# Altium integrated library TI Data Converters Analog to Digital Converter.IntLib: 2198 symbols (part 9 of 164)
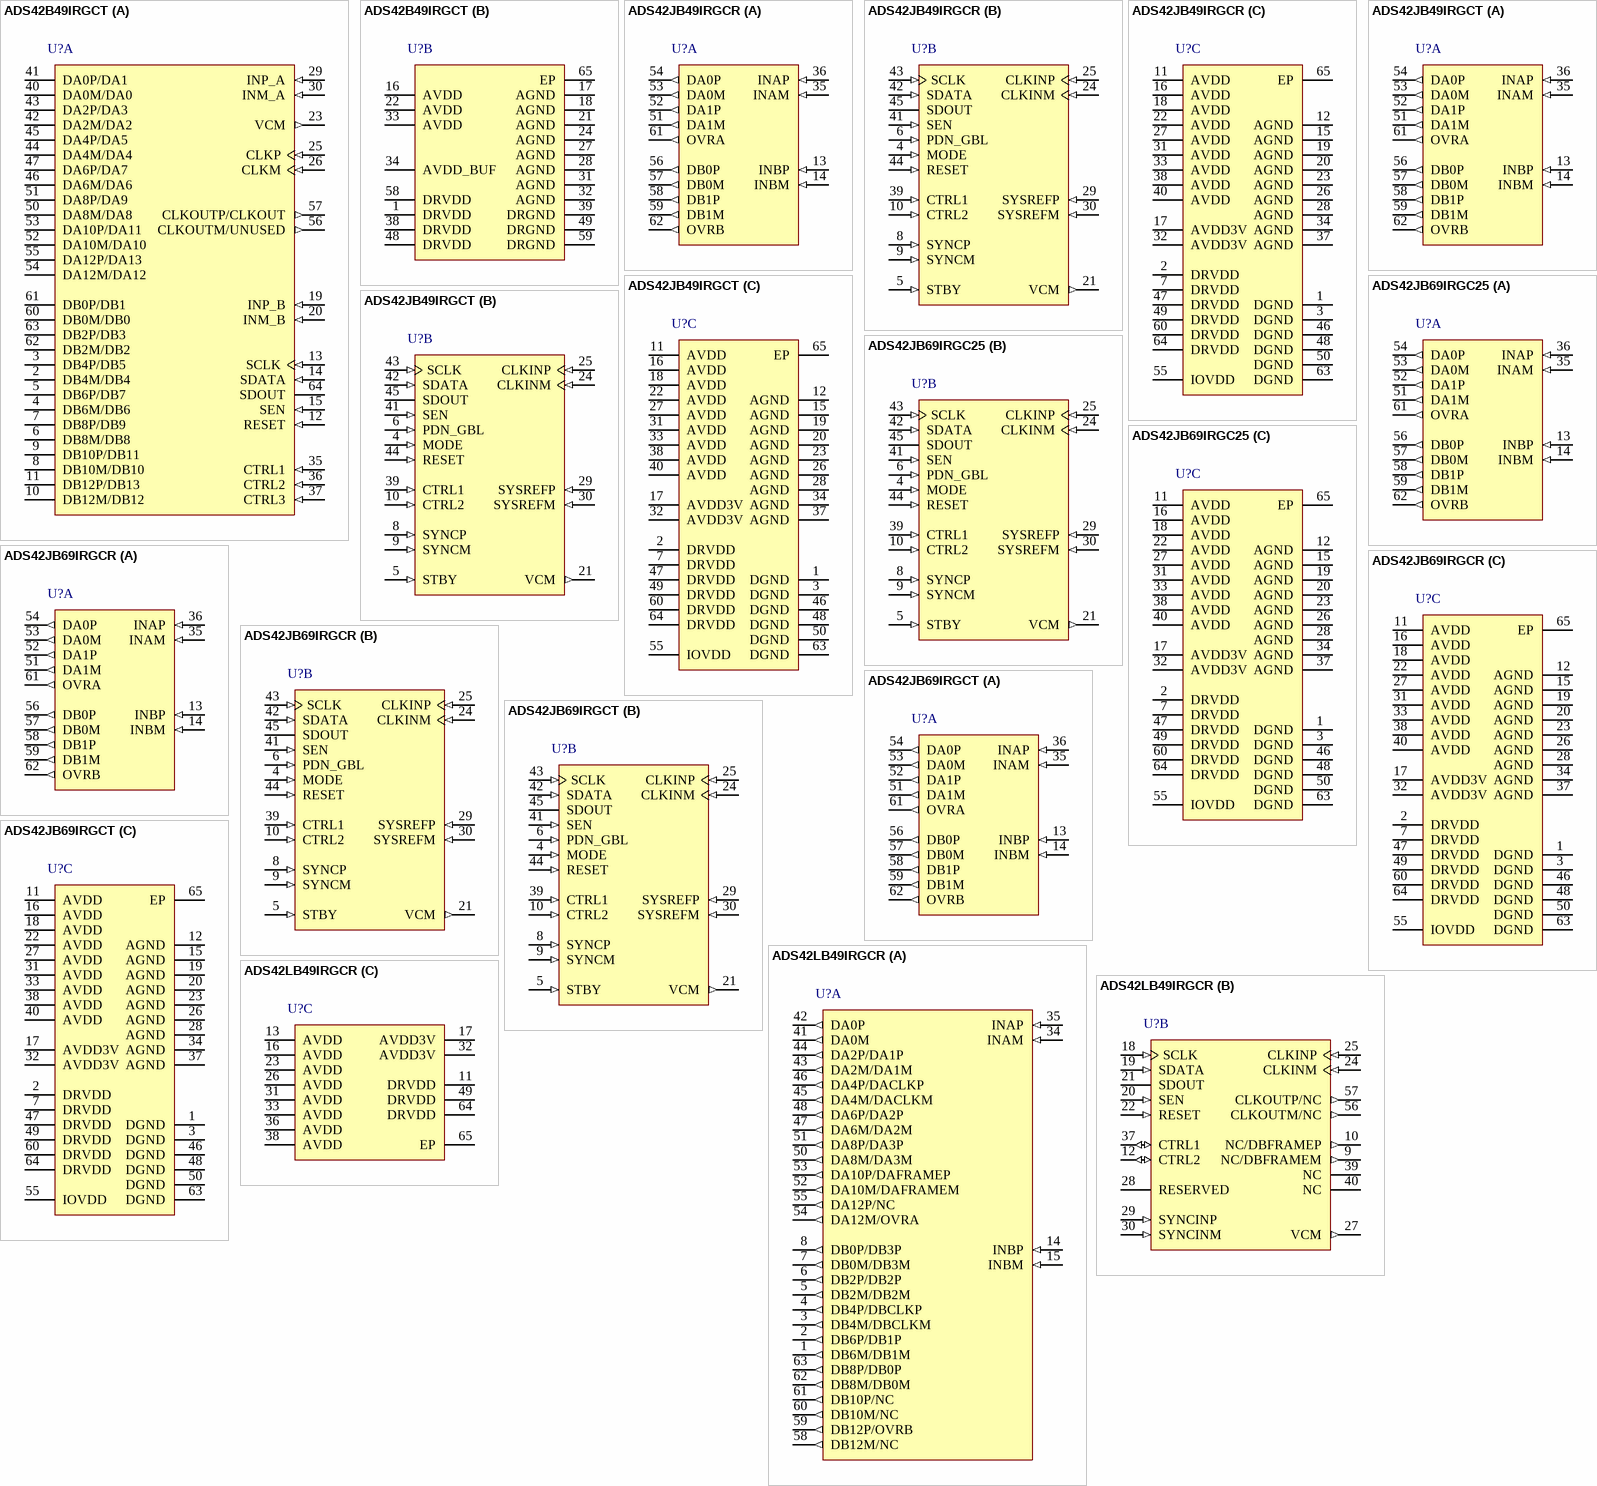
[diagram p134: symbols ADS42B49IRGCT to ADS42LB49IRGCR]

## ADS42JB69IRGCR
designator U?
Dual 16-Bit, 250 MSPS ADC, -40 to 85 degC, 64-pin QFN (RGC64), Green (RoHS & no Sb/Br); Manufacturer: Texas Instruments; PartNumber: ADS42JB69IRGCR; # Input Channels: 2; Analog Voltage AV/DD(Max)(V): 3.45; Analog Voltage AV/DD(Min)(V): 3.15; Architecture: Pipeline; Digital Supply(Max)(V): 1.9; Digital Supply(Min)(V): 1.7; Interface: JEDEC 204B; Resolution(Bits): 16; Sample Rate(max)(SPS): 250M; SFDR(dB): 89; SNR(dB): 73.3; SubFamily: High Speed ADC (>10MSPS); DatasheetVersion: SLAS900A; PackageVersion: 4204106/F, 11/2011; PackageReference: RGC64-7400X7400TP; PackageDescription: 64-Pin Plastic Quad Flatpack No-Lead, Body 9 x 9 mm, Pitch 0.5 mm; Supplier 1: Digi-Key; Supplier Part Number 1: ADS1110A1IDBVTG4-ND; Eco-Plan: Green (RoHS & no Sb/Br); Mounting Technology: Surface Mount; ComponentLink1Description: Manufacturer URL; ComponentLink1URL: http://www.ti.com/; ComponentLink2Description: Datasheet; ComponentLink2URL: http://www.ti.com/lit/ds/symlink/ads42jb69.pdf; ComponentLink3Description: Package Specification; ComponentLink3URL: http://www.ti.com/litv/pdf/mpqf125e
footprint TI-RGC64-7400X7400TP_V (QFN, 64-Leads, Body 9x9mm, Pitch 0.5mm, Thermal Pad 7.4x7.4mm, TI Recommended)
part A pins: 13 INBP (in) "Differential analog input for channel B", 14 INBM (in) "Differential analog input for channel B", 35 INAM (in) "Differential analog input for channel A", 36 INAP (in) "Differential analog input for channel A", 51 DA1M (out) "JESD204B Serial data output for channel A", 52 DA1P (out) "JESD204B Serial data output for channel A", 53 DA0M (out) "JESD204B Serial data output for channel A", 54 DA0P (out) "JESD204B Serial data output for channel A", 56 DB0P (out) "JESD204B Serial data output for channel B", 57 DB0M (out) "JESD204B Serial data output for channel B", 58 DB1P (out) "JESD204B Serial data output for channel B", 59 DB1M (out) "JESD204B Serial data output for channel B", 61 OVRA (out) "Overrange indication channel A", 62 OVRB (out) "Overrange indication channel B"
part B pins: 4 MODE (in) "Connect to GND", 5 STBY (in) "Standby. Active high with internal pulldown resistor", 6 PDN_GBL (in) "Global power down. Active high with internal pulldown resistor", 8 SYNCP (in) "Synchronization input for JESD204B port", 9 SYNCM (in) "Synchronization input for JESD204B port", 10 CTRL2 (in) "Power down control", 21 VCM (out) "Common mode voltage for analog inputs, 1.9V", 24 CLKINM (in) "Differential clock input for ADC", 25 CLKINP (in) "Differential clock input for ADC", 29 SYSREFP (in) "External sync input", 30 SYSREFM (in) "External sync input", 39 CTRL1 (in) "Power down control", 41 SEN (in) "Serial interface enable", 42 SDATA (in) "Serial interface data input.", 43 SCLK (in) "Serial interface clock input", 44 RESET (in) "Hardware reset. Active high. This pin has an internal 150kO pull-down resistor.", 45 SDOUT (hiz) "Serial interface data output"
part C pins: 1 DGND (power) "Digital ground", 2 DRVDD (power) "Digital 1.8V power supply", 3 DGND (power) "Digital ground", 7 DRVDD (power) "Digital 1.8V power supply", 11 AVDD (power) "Analog 1.8V power supply", 12 AGND (power) "Analog ground", 15 AGND (power) "Analog ground", 16 AVDD (power) "Analog 1.8V power supply", 17 AVDD3V (power) "Analog 3.3V for analog buffer", 18 AVDD (power) "Analog 1.8V power supply", 19 AGND (power) "Analog ground", 20 AGND (power) "Analog ground", 22 AVDD (power) "Analog 1.8V power supply", 23 AGND (power) "Analog ground", 26 AGND (power) "Analog ground", 27 AVDD (power) "Analog 1.8V power supply", 28 AGND (power) "Analog ground", 31 AVDD (power) "Analog 1.8V power supply", 32 AVDD3V (power) "Analog 3.3V for analog buffer", 33 AVDD (power) "Analog 1.8V power supply", 34 AGND (power) "Analog ground", 37 AGND (power) "Analog ground", 38 AVDD (power) "Analog 1.8V power supply", 40 AVDD (power) "Analog 1.8V power supply", 46 DGND (power) "Digital ground", 47 DRVDD (power) "Digital 1.8V power supply", 48 DGND (power) "Digital ground", 49 DRVDD (power) "Digital 1.8V power supply", 50 DGND (power) "Digital ground", 55 IOVDD (power) "Digital 1.8V power supply for the JESD204B transmitter", 60 DRVDD (power) "Digital 1.8V power supply", 63 DGND (power) "Digital ground", 64 DRVDD (power) "Digital 1.8V power supply", 65 EP (power)

## ADS42JB69IRGCT
designator U?
Dual 16-Bit, 250 MSPS ADC, -40 to 85 degC, 64-pin QFN (RGC64), Green (RoHS & no Sb/Br); Manufacturer: Texas Instruments; PartNumber: ADS42JB69IRGCT; # Input Channels: 2; Analog Voltage AV/DD(Max)(V): 3.45; Analog Voltage AV/DD(Min)(V): 3.15; Architecture: Pipeline; Digital Supply(Max)(V): 1.9; Digital Supply(Min)(V): 1.7; Interface: JEDEC 204B; Resolution(Bits): 16; Sample Rate(max)(SPS): 250M; SFDR(dB): 89; SNR(dB): 73.3; SubFamily: High Speed ADC (>10MSPS); DatasheetVersion: SLAS900A; PackageVersion: 4204106/F, 11/2011; PackageReference: RGC64-7400X7400TP; PackageDescription: 64-Pin Plastic Quad Flatpack No-Lead, Body 9 x 9 mm, Pitch 0.5 mm; Supplier 1: Digi-Key; Supplier Part Number 1: ADS1110A2IDBVR-ND; Eco-Plan: Green (RoHS & no Sb/Br); Mounting Technology: Surface Mount; ComponentLink1Description: Manufacturer URL; ComponentLink1URL: http://www.ti.com/; ComponentLink2Description: Datasheet; ComponentLink2URL: http://www.ti.com/lit/ds/symlink/ads42jb69.pdf; ComponentLink3Description: Package Specification; ComponentLink3URL: http://www.ti.com/litv/pdf/mpqf125e
footprint TI-RGC64-7400X7400TP_V (QFN, 64-Leads, Body 9x9mm, Pitch 0.5mm, Thermal Pad 7.4x7.4mm, TI Recommended)
part A pins: 13 INBP (in) "Differential analog input for channel B", 14 INBM (in) "Differential analog input for channel B", 35 INAM (in) "Differential analog input for channel A", 36 INAP (in) "Differential analog input for channel A", 51 DA1M (out) "JESD204B Serial data output for channel A", 52 DA1P (out) "JESD204B Serial data output for channel A", 53 DA0M (out) "JESD204B Serial data output for channel A", 54 DA0P (out) "JESD204B Serial data output for channel A", 56 DB0P (out) "JESD204B Serial data output for channel B", 57 DB0M (out) "JESD204B Serial data output for channel B", 58 DB1P (out) "JESD204B Serial data output for channel B", 59 DB1M (out) "JESD204B Serial data output for channel B", 61 OVRA (out) "Overrange indication channel A", 62 OVRB (out) "Overrange indication channel B"
part B pins: 4 MODE (in) "Connect to GND", 5 STBY (in) "Standby. Active high with internal pulldown resistor", 6 PDN_GBL (in) "Global power down. Active high with internal pulldown resistor", 8 SYNCP (in) "Synchronization input for JESD204B port", 9 SYNCM (in) "Synchronization input for JESD204B port", 10 CTRL2 (in) "Power down control", 21 VCM (out) "Common mode voltage for analog inputs, 1.9V", 24 CLKINM (in) "Differential clock input for ADC", 25 CLKINP (in) "Differential clock input for ADC", 29 SYSREFP (in) "External sync input", 30 SYSREFM (in) "External sync input", 39 CTRL1 (in) "Power down control", 41 SEN (in) "Serial interface enable", 42 SDATA (in) "Serial interface data input.", 43 SCLK (in) "Serial interface clock input", 44 RESET (in) "Hardware reset. Active high. This pin has an internal 150kO pull-down resistor.", 45 SDOUT (hiz) "Serial interface data output"
part C pins: 1 DGND (power) "Digital ground", 2 DRVDD (power) "Digital 1.8V power supply", 3 DGND (power) "Digital ground", 7 DRVDD (power) "Digital 1.8V power supply", 11 AVDD (power) "Analog 1.8V power supply", 12 AGND (power) "Analog ground", 15 AGND (power) "Analog ground", 16 AVDD (power) "Analog 1.8V power supply", 17 AVDD3V (power) "Analog 3.3V for analog buffer", 18 AVDD (power) "Analog 1.8V power supply", 19 AGND (power) "Analog ground", 20 AGND (power) "Analog ground", 22 AVDD (power) "Analog 1.8V power supply", 23 AGND (power) "Analog ground", 26 AGND (power) "Analog ground", 27 AVDD (power) "Analog 1.8V power supply", 28 AGND (power) "Analog ground", 31 AVDD (power) "Analog 1.8V power supply", 32 AVDD3V (power) "Analog 3.3V for analog buffer", 33 AVDD (power) "Analog 1.8V power supply", 34 AGND (power) "Analog ground", 37 AGND (power) "Analog ground", 38 AVDD (power) "Analog 1.8V power supply", 40 AVDD (power) "Analog 1.8V power supply", 46 DGND (power) "Digital ground", 47 DRVDD (power) "Digital 1.8V power supply", 48 DGND (power) "Digital ground", 49 DRVDD (power) "Digital 1.8V power supply", 50 DGND (power) "Digital ground", 55 IOVDD (power) "Digital 1.8V power supply for the JESD204B transmitter", 60 DRVDD (power) "Digital 1.8V power supply", 63 DGND (power) "Digital ground", 64 DRVDD (power) "Digital 1.8V power supply", 65 EP (power)

## ADS42LB49IRGCR
designator U?
Dual 14-Bit, 250 MSPS ADC, -40 to 85 degC, 64-pin QFN (RGC64); Manufacturer: Texas Instruments; PartNumber: ADS42LB49IRGCR; # Input Channels: 2; Analog Voltage AV/DD(Max)(V): 3.45; Analog Voltage AV/DD(Min)(V): 3.15; Architecture: Pipeline; Digital Supply(Max)(V): 1.9; Digital Supply(Min)(V): 1.7; Interface: Parallel LVDS; Resolution(Bits): 14; Sample Rate(max)(SPS): 250M; SFDR(dB): 89; SNR(dB): 71.9; SubFamily: High Speed ADC (>10MSPS); DatasheetVersion: SLAS904B; PackageVersion: 4204106/F, 11/2011; PackageReference: RGC64-7400X7400TP; PackageDescription: 64-Pin Plastic Quad Flatpack No-Lead, Body 9 x 9 mm, Pitch 0.5 mm; Supplier 1: Digi-Key; Supplier Part Number 1: ADS1110A2IDBVRG4-ND; Mounting Technology: Surface Mount; ComponentLink1Description: Manufacturer URL; ComponentLink1URL: http://www.ti.com/; ComponentLink2Description: Datasheet; ComponentLink2URL: http://www.ti.com/lit/ds/symlink/ads42lb49.pdf; ComponentLink3Description: Package Specification; ComponentLink3URL: http://www.ti.com/litv/pdf/mpqf125e
footprint TI-RGC64-7400X7400TP_V (QFN, 64-Leads, Body 9x9mm, Pitch 0.5mm, Thermal Pad 7.4x7.4mm, TI Recommended)
part A pins: 1 DB6M/DB1M (out), 2 DB6P/DB1P (out), 3 DB4M/DBCLKM (out), 4 DB4P/DBCLKP (out), 5 DB2M/DB2M (out), 6 DB2P/DB2P (out), 7 DB0M/DB3M (out), 8 DB0P/DB3P (out), 14 INBP (in) "Differential analog input for channel B", 15 INBM (in) "Differential analog input for channel B", 34 INAM (in) "Differential analog input for channel A", 35 INAP (in) "Differential analog input for channel A", 41 DA0M (out), 42 DA0P (out), 43 DA2M/DA1M (out), 44 DA2P/DA1P (out), 45 DA4M/DACLKM (out), 46 DA4P/DACLKP (out), 47 DA6M/DA2M (out), 48 DA6P/DA2P (out), 50 DA8M/DA3M (out), 51 DA8P/DA3P (out), 52 DA10M/DAFRAMEM (out), 53 DA10P/DAFRAMEP (out), 54 DA12M/OVRA (out), 55 DA12P/NC (out), 58 DB12M/NC (out), 59 DB12P/OVRB (out), 60 DB10M/NC (out), 61 DB10P/NC (out), 62 DB8M/DB0M (out), 63 DB8P/DB0P (out)
part B pins: 9 NC/DBFRAMEM (out), 10 NC/DBFRAMEP (out), 12 CTRL2 (io) "Can be configured as power-down input pin or as OVR output pin for channel B, depending on the register bit PDN/OVR FOR CTRL PINS.", 18 SCLK (in) "Serial interface clock input", 19 SDATA (in) "Serial interface data input.", 20 SEN (in) "Serial interface enable", 21 SDOUT (hiz) "Serial interface data output", 22 RESET (in) "Hardware reset. Active high. This pin has an internal 150kohm pull-down resistor.", 24 CLKINM (in) "Differential clock input for ADC", 25 CLKINP (in) "Differential clock input for ADC", 27 VCM (out) "Common-mode voltage for analog inputs, 1.85 V", 28 RESERVED "Do not connect", 29 SYNCINP (in) "External sync input. If not used, SYNCINP should be connected to GND and SYNCINM connected to AVDD.", 30 SYNCINM (in) "External sync input. If not used, SYNCINP should be connected to GND and SYNCINM connected to AVDD.", 37 CTRL1 (io) "Can be configured as power-down input pin or as OVR output pin for channel A, depending on the register bit PDN/OVR FOR CTRL PINS.", 39 NC "Do not connect", 40 NC "Do not connect", 56 CLKOUTM/NC (out), 57 CLKOUTP/NC (out)
part C pins: 11 DRVDD (power) "Digital 1.8-V power supply", 13 AVDD (power) "Analog 1.8-V power supply", 16 AVDD (power) "Analog 1.8-V power supply", 17 AVDD3V (power) "Analog 3.3 V power supply for analog buffer", 23 AVDD (power) "Analog 1.8-V power supply", 26 AVDD (power) "Analog 1.8-V power supply", 31 AVDD (power) "Analog 1.8-V power supply", 32 AVDD3V (power) "Analog 3.3 V power supply for analog buffer", 33 AVDD (power) "Analog 1.8-V power supply", 36 AVDD (power) "Analog 1.8-V power supply", 38 AVDD (power) "Analog 1.8-V power supply", 49 DRVDD (power) "Digital 1.8-V power supply", 64 DRVDD (power) "Digital 1.8-V power supply", 65 EP (power) "Ground"

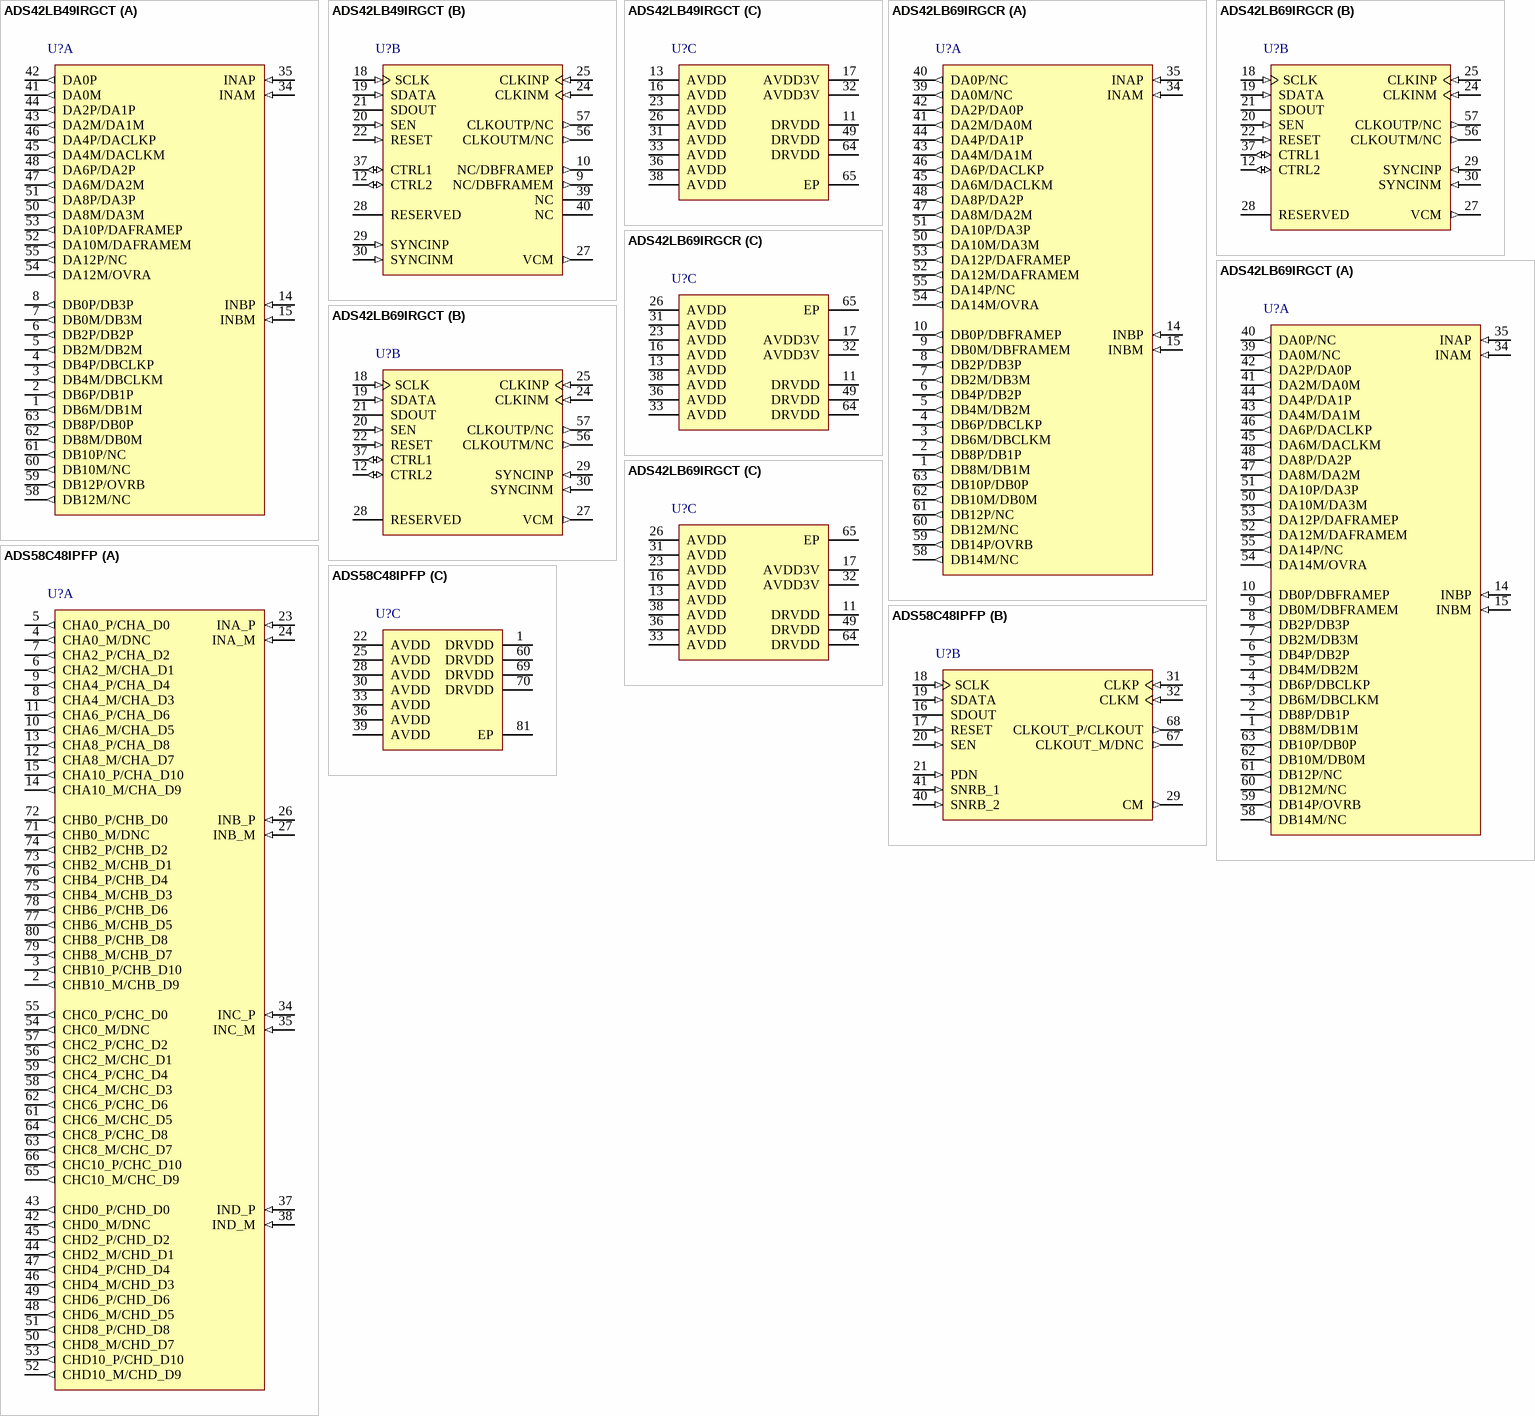
[diagram p4: symbols ADS42LB49IRGCT to ADS58C48IPFP]

## ADS42LB49IRGCT
designator U?
Dual 14-Bit, 250 MSPS ADC, -40 to 85 degC, 64-pin QFN (RGC64); Manufacturer: Texas Instruments; PartNumber: ADS42LB49IRGCT; # Input Channels: 2; Analog Voltage AV/DD(Max)(V): 3.45; Analog Voltage AV/DD(Min)(V): 3.15; Architecture: Pipeline; Digital Supply(Max)(V): 1.9; Digital Supply(Min)(V): 1.7; Interface: Parallel LVDS; Resolution(Bits): 14; Sample Rate(max)(SPS): 250M; SFDR(dB): 89; SNR(dB): 71.9; SubFamily: High Speed ADC (>10MSPS); DatasheetVersion: SLAS904B; PackageVersion: 4204106/F, 11/2011; PackageReference: RGC64-7400X7400TP; PackageDescription: 64-Pin Plastic Quad Flatpack No-Lead, Body 9 x 9 mm, Pitch 0.5 mm; Supplier 1: Digi-Key; Supplier Part Number 1: 296-14463-2-ND; Mounting Technology: Surface Mount; ComponentLink1Description: Manufacturer URL; ComponentLink1URL: http://www.ti.com/; ComponentLink2Description: Datasheet; ComponentLink2URL: http://www.ti.com/lit/ds/symlink/ads42lb49.pdf; ComponentLink3Description: Package Specification; ComponentLink3URL: http://www.ti.com/litv/pdf/mpqf125e
footprint TI-RGC64-7400X7400TP_V (QFN, 64-Leads, Body 9x9mm, Pitch 0.5mm, Thermal Pad 7.4x7.4mm, TI Recommended)
part A pins: 1 DB6M/DB1M (out), 2 DB6P/DB1P (out), 3 DB4M/DBCLKM (out), 4 DB4P/DBCLKP (out), 5 DB2M/DB2M (out), 6 DB2P/DB2P (out), 7 DB0M/DB3M (out), 8 DB0P/DB3P (out), 14 INBP (in) "Differential analog input for channel B", 15 INBM (in) "Differential analog input for channel B", 34 INAM (in) "Differential analog input for channel A", 35 INAP (in) "Differential analog input for channel A", 41 DA0M (out), 42 DA0P (out), 43 DA2M/DA1M (out), 44 DA2P/DA1P (out), 45 DA4M/DACLKM (out), 46 DA4P/DACLKP (out), 47 DA6M/DA2M (out), 48 DA6P/DA2P (out), 50 DA8M/DA3M (out), 51 DA8P/DA3P (out), 52 DA10M/DAFRAMEM (out), 53 DA10P/DAFRAMEP (out), 54 DA12M/OVRA (out), 55 DA12P/NC (out), 58 DB12M/NC (out), 59 DB12P/OVRB (out), 60 DB10M/NC (out), 61 DB10P/NC (out), 62 DB8M/DB0M (out), 63 DB8P/DB0P (out)
part B pins: 9 NC/DBFRAMEM (out), 10 NC/DBFRAMEP (out), 12 CTRL2 (io) "Can be configured as power-down input pin or as OVR output pin for channel B, depending on the register bit PDN/OVR FOR CTRL PINS.", 18 SCLK (in) "Serial interface clock input", 19 SDATA (in) "Serial interface data input.", 20 SEN (in) "Serial interface enable", 21 SDOUT (hiz) "Serial interface data output", 22 RESET (in) "Hardware reset. Active high. This pin has an internal 150kohm pull-down resistor.", 24 CLKINM (in) "Differential clock input for ADC", 25 CLKINP (in) "Differential clock input for ADC", 27 VCM (out) "Common-mode voltage for analog inputs, 1.85 V", 28 RESERVED "Do not connect", 29 SYNCINP (in) "External sync input. If not used, SYNCINP should be connected to GND and SYNCINM connected to AVDD.", 30 SYNCINM (in) "External sync input. If not used, SYNCINP should be connected to GND and SYNCINM connected to AVDD.", 37 CTRL1 (io) "Can be configured as power-down input pin or as OVR output pin for channel A, depending on the register bit PDN/OVR FOR CTRL PINS.", 39 NC "Do not connect", 40 NC "Do not connect", 56 CLKOUTM/NC (out), 57 CLKOUTP/NC (out)
part C pins: 11 DRVDD (power) "Digital 1.8-V power supply", 13 AVDD (power) "Analog 1.8-V power supply", 16 AVDD (power) "Analog 1.8-V power supply", 17 AVDD3V (power) "Analog 3.3 V power supply for analog buffer", 23 AVDD (power) "Analog 1.8-V power supply", 26 AVDD (power) "Analog 1.8-V power supply", 31 AVDD (power) "Analog 1.8-V power supply", 32 AVDD3V (power) "Analog 3.3 V power supply for analog buffer", 33 AVDD (power) "Analog 1.8-V power supply", 36 AVDD (power) "Analog 1.8-V power supply", 38 AVDD (power) "Analog 1.8-V power supply", 49 DRVDD (power) "Digital 1.8-V power supply", 64 DRVDD (power) "Digital 1.8-V power supply", 65 EP (power) "Ground"

## ADS42LB69IRGCR
designator U?
Dual 16-Bit, 250 MSPS ADC, -40 to 85 degC, 64-pin QFN (RGC64); Manufacturer: Texas Instruments; PartNumber: ADS42LB69IRGCR; # Input Channels: 2; Analog Voltage AV/DD(Max)(V): 3.45; Analog Voltage AV/DD(Min)(V): 3.15; Architecture: Pipeline; Digital Supply(Max)(V): 1.9; Digital Supply(Min)(V): 1.7; Interface: Parallel LVDS; Resolution(Bits): 16; Sample Rate(max)(SPS): 250M; SFDR(dB): 89; SNR(dB): 73.3; SubFamily: High Speed ADC (>10MSPS); DatasheetVersion: SLAS904B; PackageVersion: 4204106/F, 11/2011; PackageReference: RGC64-7400X7400TP; PackageDescription: 64-Pin Plastic Quad Flatpack No-Lead, Body 9 x 9 mm, Pitch 0.5 mm; Supplier 1: Digi-Key; Supplier Part Number 1: ADS1110A2IDBVTG4-ND; Mounting Technology: Surface Mount; ComponentLink1Description: Manufacturer URL; ComponentLink1URL: http://www.ti.com/; ComponentLink2Description: Datasheet; ComponentLink2URL: http://www.ti.com/lit/ds/symlink/ads42lb69.pdf; ComponentLink3Description: Package Specification; ComponentLink3URL: http://www.ti.com/litv/pdf/mpqf125e
footprint TI-RGC64-7400X7400TP_V (QFN, 64-Leads, Body 9x9mm, Pitch 0.5mm, Thermal Pad 7.4x7.4mm, TI Recommended)
part A pins: 1 DB8M/DB1M (out), 2 DB8P/DB1P (out), 3 DB6M/DBCLKM (out), 4 DB6P/DBCLKP (out), 5 DB4M/DB2M (out), 6 DB4P/DB2P (out), 7 DB2M/DB3M (out), 8 DB2P/DB3P (out), 9 DB0M/DBFRAMEM (out), 10 DB0P/DBFRAMEP (out), 14 INBP (in) "Differential analog input for channel B", 15 INBM (in) "Differential analog input for channel B", 34 INAM (in) "Differential analog input for channel A", 35 INAP (in) "Differential analog input for channel A", 39 DA0M/NC (out), 40 DA0P/NC (out), 41 DA2M/DA0M (out), 42 DA2P/DA0P (out), 43 DA4M/DA1M (out), 44 DA4P/DA1P (out), 45 DA6M/DACLKM (out), 46 DA6P/DACLKP (out), 47 DA8M/DA2M (out), 48 DA8P/DA2P (out), 50 DA10M/DA3M (out), 51 DA10P/DA3P (out), 52 DA12M/DAFRAMEM (out), 53 DA12P/DAFRAMEP (out), 54 DA14M/OVRA (out), 55 DA14P/NC (out), 58 DB14M/NC (out), 59 DB14P/OVRB (out), 60 DB12M/NC (out), 61 DB12P/NC (out), 62 DB10M/DB0M (out), 63 DB10P/DB0P (out)
part B pins: 12 CTRL2 (io) "Can be configured as power-down input pin or as OVR output pin for channel B, depending on the register bit PDN/OVR FOR CTRL PINS", 18 SCLK (in) "Serial interface clock input", 19 SDATA (in) "Serial interface data input.", 20 SEN (in) "Serial interface enable.", 21 SDOUT (hiz) "Serial interface data output", 22 RESET (in) "Hardware reset. Active high. This pin has an internal 150kohm pull-down resistor.", 24 CLKINM (in) "Differential clock input for ADC", 25 CLKINP (in) "Differential clock input for ADC", 27 VCM (out) "Common-mode voltage for analog inputs, 1.85 V", 28 RESERVED "Do not connect", 29 SYNCINP (in) "External sync input. If not used, SYNCINP should be connected to GND and SYNCINM connected to AVDD.", 30 SYNCINM (in) "External sync input. If not used, SYNCINP should be connected to GND and SYNCINM connected to AVDD.", 37 CTRL1 (io) "Can be configured as power-down input pin or as OVR output pin for channel A, depending on the register bit PDN/OVR FOR CTRL PINS.", 56 CLKOUTM/NC (out), 57 CLKOUTP/NC (out)
part C pins: 11 DRVDD (power) "Digital 1.8-V power supply", 13 AVDD (power) "Analog 1.8-V power supply", 16 AVDD (power) "Analog 1.8-V power supply", 17 AVDD3V (power) "Analog 3.3 V power supply for analog buffer", 23 AVDD (power) "Analog 1.8-V power supply", 26 AVDD (power) "Analog 1.8-V power supply", 31 AVDD (power) "Analog 1.8-V power supply", 32 AVDD3V (power) "Analog 3.3 V power supply for analog buffer", 33 AVDD (power) "Analog 1.8-V power supply", 36 AVDD (power) "Analog 1.8-V power supply", 38 AVDD (power) "Analog 1.8-V power supply", 49 DRVDD (power) "Digital 1.8-V power supply", 64 DRVDD (power) "Digital 1.8-V power supply", 65 EP (power) "Ground"

## ADS42LB69IRGCT
designator U?
Dual 16-Bit, 250 MSPS ADC, -40 to 85 degC, 64-pin QFN (RGC64); Manufacturer: Texas Instruments; PartNumber: ADS42LB69IRGCT; # Input Channels: 2; Analog Voltage AV/DD(Max)(V): 3.45; Analog Voltage AV/DD(Min)(V): 3.15; Architecture: Pipeline; Digital Supply(Max)(V): 1.9; Digital Supply(Min)(V): 1.7; Interface: Parallel LVDS; Resolution(Bits): 16; Sample Rate(max)(SPS): 250M; SFDR(dB): 89; SNR(dB): 73.3; SubFamily: High Speed ADC (>10MSPS); DatasheetVersion: SLAS904B; PackageVersion: 4204106/F, 11/2011; PackageReference: RGC64-7400X7400TP; PackageDescription: 64-Pin Plastic Quad Flatpack No-Lead, Body 9 x 9 mm, Pitch 0.5 mm; Supplier 1: Digi-Key; Supplier Part Number 1: 296-14464-2-ND; Mounting Technology: Surface Mount; ComponentLink1Description: Manufacturer URL; ComponentLink1URL: http://www.ti.com/; ComponentLink2Description: Datasheet; ComponentLink2URL: http://www.ti.com/lit/ds/symlink/ads42lb69.pdf; ComponentLink3Description: Package Specification; ComponentLink3URL: http://www.ti.com/litv/pdf/mpqf125e
footprint TI-RGC64-7400X7400TP_V (QFN, 64-Leads, Body 9x9mm, Pitch 0.5mm, Thermal Pad 7.4x7.4mm, TI Recommended)
part A pins: 1 DB8M/DB1M (out), 2 DB8P/DB1P (out), 3 DB6M/DBCLKM (out), 4 DB6P/DBCLKP (out), 5 DB4M/DB2M (out), 6 DB4P/DB2P (out), 7 DB2M/DB3M (out), 8 DB2P/DB3P (out), 9 DB0M/DBFRAMEM (out), 10 DB0P/DBFRAMEP (out), 14 INBP (in) "Differential analog input for channel B", 15 INBM (in) "Differential analog input for channel B", 34 INAM (in) "Differential analog input for channel A", 35 INAP (in) "Differential analog input for channel A", 39 DA0M/NC (out), 40 DA0P/NC (out), 41 DA2M/DA0M (out), 42 DA2P/DA0P (out), 43 DA4M/DA1M (out), 44 DA4P/DA1P (out), 45 DA6M/DACLKM (out), 46 DA6P/DACLKP (out), 47 DA8M/DA2M (out), 48 DA8P/DA2P (out), 50 DA10M/DA3M (out), 51 DA10P/DA3P (out), 52 DA12M/DAFRAMEM (out), 53 DA12P/DAFRAMEP (out), 54 DA14M/OVRA (out), 55 DA14P/NC (out), 58 DB14M/NC (out), 59 DB14P/OVRB (out), 60 DB12M/NC (out), 61 DB12P/NC (out), 62 DB10M/DB0M (out), 63 DB10P/DB0P (out)
part B pins: 12 CTRL2 (io) "Can be configured as power-down input pin or as OVR output pin for channel B, depending on the register bit PDN/OVR FOR CTRL PINS", 18 SCLK (in) "Serial interface clock input", 19 SDATA (in) "Serial interface data input.", 20 SEN (in) "Serial interface enable.", 21 SDOUT (hiz) "Serial interface data output", 22 RESET (in) "Hardware reset. Active high. This pin has an internal 150kohm pull-down resistor.", 24 CLKINM (in) "Differential clock input for ADC", 25 CLKINP (in) "Differential clock input for ADC", 27 VCM (out) "Common-mode voltage for analog inputs, 1.85 V", 28 RESERVED "Do not connect", 29 SYNCINP (in) "External sync input. If not used, SYNCINP should be connected to GND and SYNCINM connected to AVDD.", 30 SYNCINM (in) "External sync input. If not used, SYNCINP should be connected to GND and SYNCINM connected to AVDD.", 37 CTRL1 (io) "Can be configured as power-down input pin or as OVR output pin for channel A, depending on the register bit PDN/OVR FOR CTRL PINS.", 56 CLKOUTM/NC (out), 57 CLKOUTP/NC (out)
part C pins: 11 DRVDD (power) "Digital 1.8-V power supply", 13 AVDD (power) "Analog 1.8-V power supply", 16 AVDD (power) "Analog 1.8-V power supply", 17 AVDD3V (power) "Analog 3.3 V power supply for analog buffer", 23 AVDD (power) "Analog 1.8-V power supply", 26 AVDD (power) "Analog 1.8-V power supply", 31 AVDD (power) "Analog 1.8-V power supply", 32 AVDD3V (power) "Analog 3.3 V power supply for analog buffer", 33 AVDD (power) "Analog 1.8-V power supply", 36 AVDD (power) "Analog 1.8-V power supply", 38 AVDD (power) "Analog 1.8-V power supply", 49 DRVDD (power) "Digital 1.8-V power supply", 64 DRVDD (power) "Digital 1.8-V power supply", 65 EP (power) "Ground"

## ADS58C48IPFP
designator U?
Quad 11-Bit 200 MSPS ADC with SNRBoost, -40 to 85 degC, 80-pin QFP (PFP80), Green (RoHS & no Sb/Br); Manufacturer: Texas Instruments; PartNumber: ADS58C48IPFP; # Input Channels: 4; Analog Voltage AV/DD(Max)(V): 1.9; Analog Voltage AV/DD(Min)(V): 1.7; Architecture: Pipeline; ENOB(Bits): 10.7; INL(Max)(+/-LSB): 2; Interface: Parallel LVDS,Parallel CMOS; Resolution(Bits): 11; Sample Rate (max)(SPS): 200M; SFDR(dB): 84; SINAD(dB): 66.6; SNR(dB): 66.7; SubFamily: High Speed ADC (>10MSPS); DatasheetVersion: SLAS689; PackageVersion: 4146925/C, 07/2011; PackageReference: PFP80-5475X7035TP; PackageDescription: 80-Pin PowerPAD(TM) Plastic Quad Flatpack, Body 12 x 12 mm, Pitch 0.5 mm; Supplier 1: Digi-Key; Supplier Part Number 1: ADS1110A3IDBVTG4-ND; Digital Supply(Max)(V): 1.9; Digital Supply(Min)(V): 1.7; Eco-Plan: Green (RoHS & no Sb/Br); Mounting Technology: Surface Mount; Code_JEDEC: MS-026; ComponentLink1Description: Manufacturer URL; ComponentLink1URL: http://www.ti.com/; ComponentLink2Description: Datasheet; ComponentLink2URL: http://www.ti.com/general/docs/lit/getliterature.tsp?genericPartNumber=ADS58C48&fileType=pdf; ComponentLink3Description: Package Specification; ComponentLink3URL: http://www.ti.com/litv/pdf/mpbg576d
footprint TI-PFP80-5475X7035TP_N (QFP, 80-Leads, Body 12x12mm, Pitch 0.5mm, Thermal Pad 6x7.56mm, IPC Medium Density)
footprint TI-PFP80-5475X7035TP_L (QFP, 80-Leads, Body 12x12mm, Pitch 0.5mm, Thermal Pad 6x7.56mm, IPC High Density)
footprint TI-PFP80-5475X7035TP_M (QFP, 80-Leads, Body 12x12mm, Pitch 0.5mm, Thermal Pad 6x7.56mm, IPC Low Density)
part A pins: 2 CHB10_M/CHB_D9 (out), 3 CHB10_P/CHB_D10 (out), 4 CHA0_M/DNC (out), 5 CHA0_P/CHA_D0 (out), 6 CHA2_M/CHA_D1 (out), 7 CHA2_P/CHA_D2 (out), 8 CHA4_M/CHA_D3 (out), 9 CHA4_P/CHA_D4 (out), 10 CHA6_M/CHA_D5 (out), 11 CHA6_P/CHA_D6 (out), 12 CHA8_M/CHA_D7 (out), 13 CHA8_P/CHA_D8 (out), 14 CHA10_M/CHA_D9 (out), 15 CHA10_P/CHA_D10 (out), 23 INA_P (in) "Differential analog input, Channel A", 24 INA_M (in) "Differential analog input, Channel A", 26 INB_P (in) "Differential analog input, Channel B", 27 INB_M (in) "Differential analog input, Channel B", 34 INC_P (in) "Differential analog input, Channel C", 35 INC_M (in) "Differential analog input, Channel C", 37 IND_P (in) "Differential analog input, Channel D", 38 IND_M (in) "Differential analog input, Channel D", 42 CHD0_M/DNC (out), 43 CHD0_P/CHD_D0 (out), 44 CHD2_M/CHD_D1 (out), 45 CHD2_P/CHD_D2 (out), 46 CHD4_M/CHD_D3 (out), 47 CHD4_P/CHD_D4 (out), 48 CHD6_M/CHD_D5 (out), 49 CHD6_P/CHD_D6 (out), 50 CHD8_M/CHD_D7 (out), 51 CHD8_P/CHD_D8 (out), 52 CHD10_M/CHD_D9 (out), 53 CHD10_P/CHD_D10 (out), 54 CHC0_M/DNC (out), 55 CHC0_P/CHC_D0 (out), 56 CHC2_M/CHC_D1 (out), 57 CHC2_P/CHC_D2 (out), 58 CHC4_M/CHC_D3 (out), 59 CHC4_P/CHC_D4 (out), 61 CHC6_M/CHC_D5 (out), 62 CHC6_P/CHC_D6 (out), 63 CHC8_M/CHC_D7 (out), 64 CHC8_P/CHC_D8 (out), 65 CHC10_M/CHC_D9 (out), 66 CHC10_P/CHC_D10 (out), 71 CHB0_M/DNC (out), 72 CHB0_P/CHB_D0 (out), 73 CHB2_M/CHB_D1 (out), 74 CHB2_P/CHB_D2 (out), 75 CHB4_M/CHB_D3 (out), 76 CHB4_P/CHB_D4 (out), 77 CHB6_M/CHB_D5 (out), 78 CHB6_P/CHB_D6 (out), 79 CHB8_M/CHB_D7 (out), 80 CHB8_P/CHB_D8 (out)
part B pins: 16 SDOUT (hiz) "This pin functions as serial interface register readout, when the <READOUT> bit is enabled. When <READOUT> = 0, this pin is put in high impedance state.It is a CMOS output pin running off DRVDD supply.", 17 RESET (in) "Serial interface RESET input. The user must initialize internal registers through hardware RESET by applying a high-going pulse on this pin or by using software reset option. Refer to SERIAL INTERFACE section. The pin has an (See Datasheet)", 18 SCLK (in) "Serial interface clock input. The pin has an internal 100-kohm pull-down resistor.", 19 SDATA (in) "Serial interface data input. The pin has an internal 100-kohm pull-down resistor.", 20 SEN (in) "Serial interface enable input. The pin has an internal 100-kohm pull-up resistor to DRVDD", 21 PDN (in) "Power down control pin. The pin has an internal 150-kohm pull-down resistor to DRGND.", 29 CM (out) "Outputs the common-mode voltage (0.95 V) that can be used externally to bias the analog input pins.", 31 CLKP (in) "Differential clock input", 32 CLKM (in) "Differential clock input", 40 SNRB_2 (in) "SNRBoost 3G control pins. Each pin has an internal 150-kohm pull-down resistor to DRGND.", 41 SNRB_1 (in) "SNRBoost 3G control pins. Each pin has an internal 150-kohm pull-down resistor to DRGND.", 67 CLKOUT_M/DNC (out), 68 CLKOUT_P/CLKOUT (out)
part C pins: 1 DRVDD (power) "1.8 V, digital supply", 22 AVDD (power) "1.8 V, analog power supply", 25 AVDD (power) "1.8 V, analog power supply", 28 AVDD (power) "1.8 V, analog power supply", 30 AVDD (power) "1.8 V, analog power supply", 33 AVDD (power) "1.8 V, analog power supply", 36 AVDD (power) "1.8 V, analog power supply", 39 AVDD (power) "1.8 V, analog power supply", 60 DRVDD (power) "1.8 V, digital supply", 69 DRVDD (power) "1.8 V, digital supply", 70 DRVDD (power) "1.8 V, digital supply", 81 EP (power) "MUST be connected to ground."

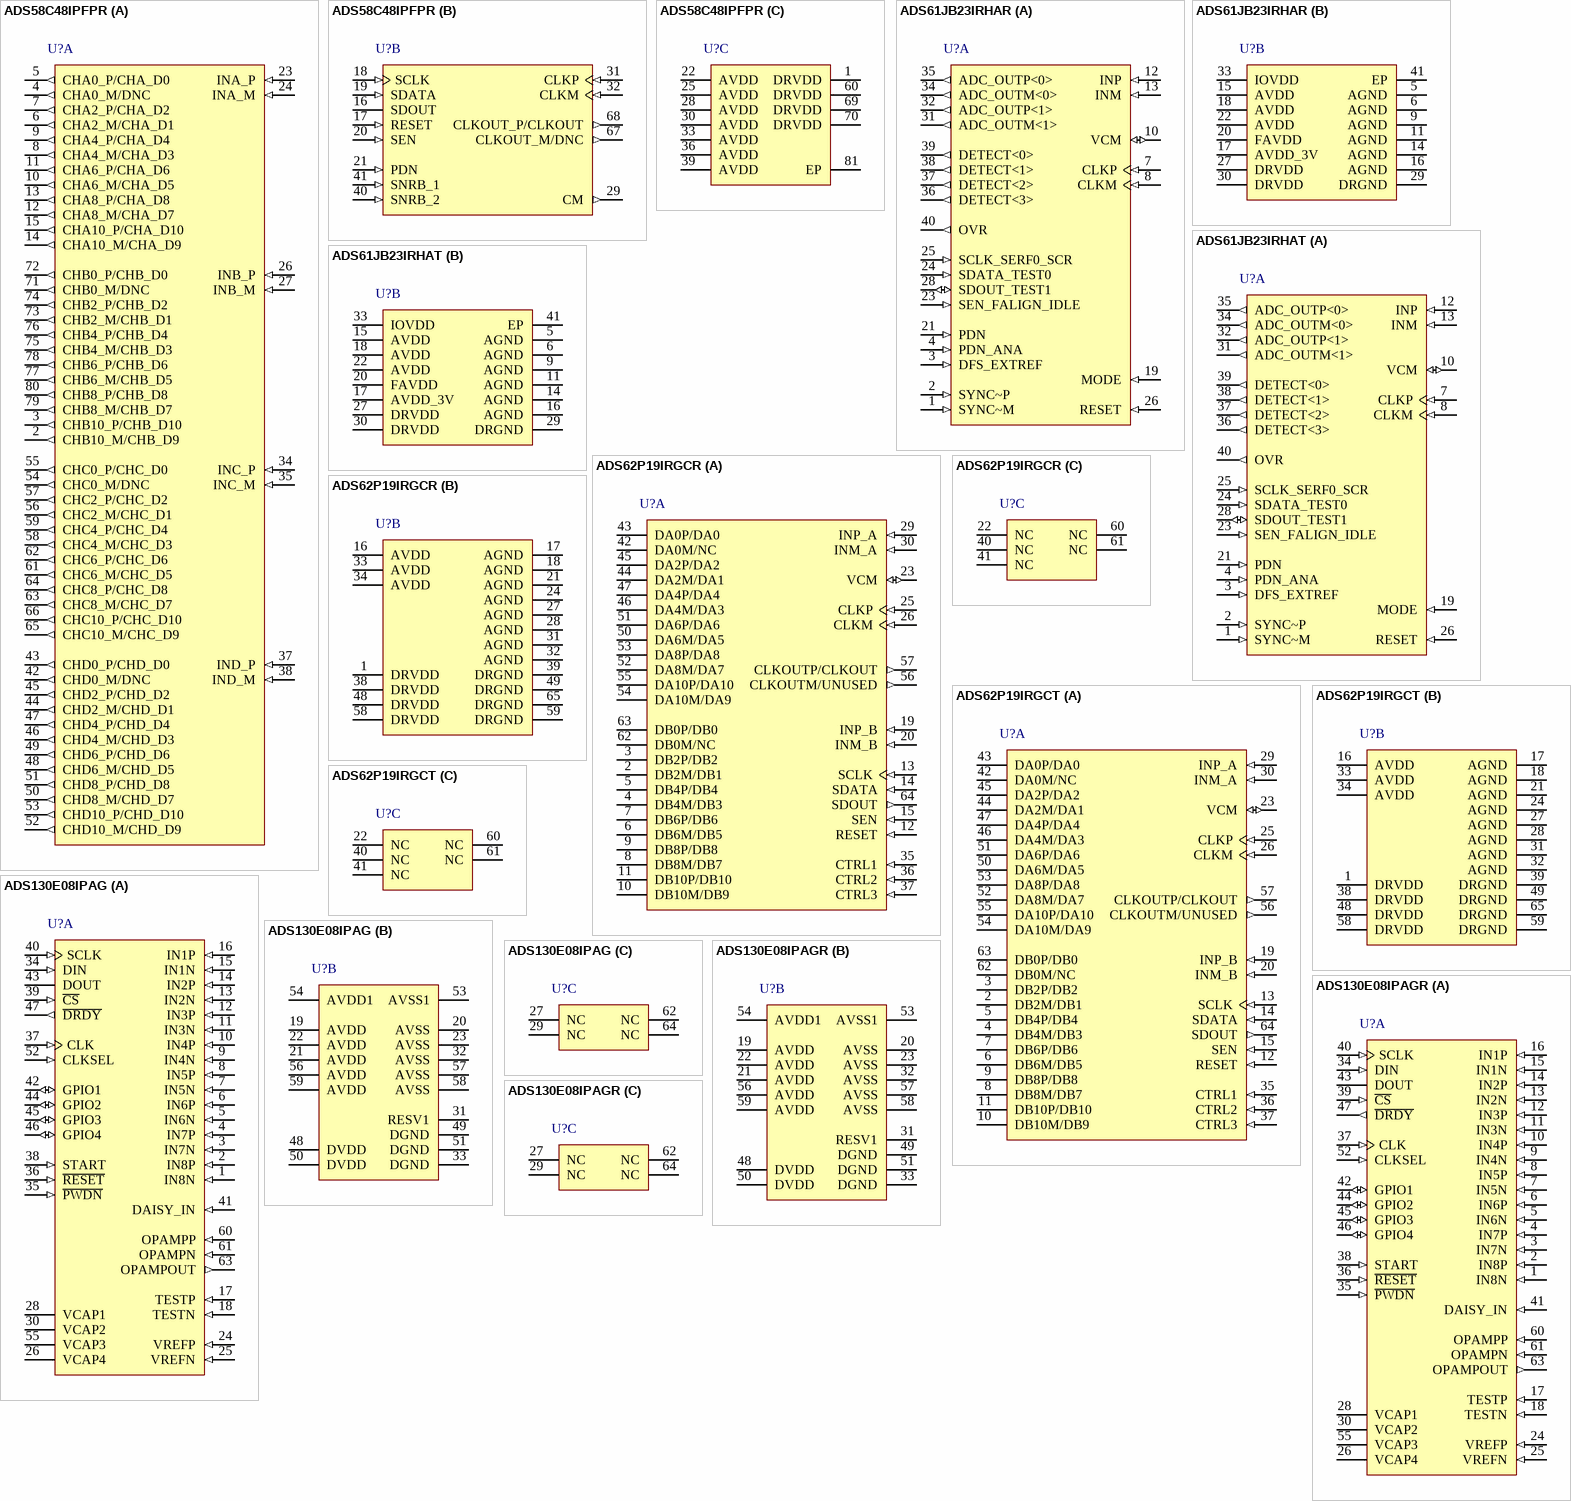
[diagram p5: symbols ADS58C48IPFPR to ADS130E08IPAGR]

## ADS58C48IPFPR
designator U?
Quad 11-Bit 200 MSPS ADC with SNRBoost, -40 to 85 degC, 80-pin QFP (PFP80), Green (RoHS & no Sb/Br); Manufacturer: Texas Instruments; PartNumber: ADS58C48IPFPR; # Input Channels: 4; Analog Voltage AV/DD(Max)(V): 1.9; Analog Voltage AV/DD(Min)(V): 1.7; Architecture: Pipeline; ENOB(Bits): 10.7; INL(Max)(+/-LSB): 2; Interface: Parallel LVDS,Parallel CMOS; Resolution(Bits): 11; Sample Rate (max)(SPS): 200M; SFDR(dB): 84; SINAD(dB): 66.6; SNR(dB): 66.7; SubFamily: High Speed ADC (>10MSPS); DatasheetVersion: SLAS689; PackageVersion: 4146925/C, 07/2011; PackageReference: PFP80-5475X7035TP; PackageDescription: 80-Pin PowerPAD(TM) Plastic Quad Flatpack, Body 12 x 12 mm, Pitch 0.5 mm; Supplier 1: Digi-Key; Supplier Part Number 1: ADS1110A4IDBVR-ND; Digital Supply(Max)(V): 1.9; Digital Supply(Min)(V): 1.7; Eco-Plan: Green (RoHS & no Sb/Br); Mounting Technology: Surface Mount; Code_JEDEC: MS-026; ComponentLink1Description: Manufacturer URL; ComponentLink1URL: http://www.ti.com/; ComponentLink2Description: Datasheet; ComponentLink2URL: http://www.ti.com/general/docs/lit/getliterature.tsp?genericPartNumber=ADS58C48&fileType=pdf; ComponentLink3Description: Package Specification; ComponentLink3URL: http://www.ti.com/litv/pdf/mpbg576d
footprint TI-PFP80-5475X7035TP_N (QFP, 80-Leads, Body 12x12mm, Pitch 0.5mm, Thermal Pad 6x7.56mm, IPC Medium Density)
footprint TI-PFP80-5475X7035TP_L (QFP, 80-Leads, Body 12x12mm, Pitch 0.5mm, Thermal Pad 6x7.56mm, IPC High Density)
footprint TI-PFP80-5475X7035TP_M (QFP, 80-Leads, Body 12x12mm, Pitch 0.5mm, Thermal Pad 6x7.56mm, IPC Low Density)
part A pins: 2 CHB10_M/CHB_D9 (out), 3 CHB10_P/CHB_D10 (out), 4 CHA0_M/DNC (out), 5 CHA0_P/CHA_D0 (out), 6 CHA2_M/CHA_D1 (out), 7 CHA2_P/CHA_D2 (out), 8 CHA4_M/CHA_D3 (out), 9 CHA4_P/CHA_D4 (out), 10 CHA6_M/CHA_D5 (out), 11 CHA6_P/CHA_D6 (out), 12 CHA8_M/CHA_D7 (out), 13 CHA8_P/CHA_D8 (out), 14 CHA10_M/CHA_D9 (out), 15 CHA10_P/CHA_D10 (out), 23 INA_P (in) "Differential analog input, Channel A", 24 INA_M (in) "Differential analog input, Channel A", 26 INB_P (in) "Differential analog input, Channel B", 27 INB_M (in) "Differential analog input, Channel B", 34 INC_P (in) "Differential analog input, Channel C", 35 INC_M (in) "Differential analog input, Channel C", 37 IND_P (in) "Differential analog input, Channel D", 38 IND_M (in) "Differential analog input, Channel D", 42 CHD0_M/DNC (out), 43 CHD0_P/CHD_D0 (out), 44 CHD2_M/CHD_D1 (out), 45 CHD2_P/CHD_D2 (out), 46 CHD4_M/CHD_D3 (out), 47 CHD4_P/CHD_D4 (out), 48 CHD6_M/CHD_D5 (out), 49 CHD6_P/CHD_D6 (out), 50 CHD8_M/CHD_D7 (out), 51 CHD8_P/CHD_D8 (out), 52 CHD10_M/CHD_D9 (out), 53 CHD10_P/CHD_D10 (out), 54 CHC0_M/DNC (out), 55 CHC0_P/CHC_D0 (out), 56 CHC2_M/CHC_D1 (out), 57 CHC2_P/CHC_D2 (out), 58 CHC4_M/CHC_D3 (out), 59 CHC4_P/CHC_D4 (out), 61 CHC6_M/CHC_D5 (out), 62 CHC6_P/CHC_D6 (out), 63 CHC8_M/CHC_D7 (out), 64 CHC8_P/CHC_D8 (out), 65 CHC10_M/CHC_D9 (out), 66 CHC10_P/CHC_D10 (out), 71 CHB0_M/DNC (out), 72 CHB0_P/CHB_D0 (out), 73 CHB2_M/CHB_D1 (out), 74 CHB2_P/CHB_D2 (out), 75 CHB4_M/CHB_D3 (out), 76 CHB4_P/CHB_D4 (out), 77 CHB6_M/CHB_D5 (out), 78 CHB6_P/CHB_D6 (out), 79 CHB8_M/CHB_D7 (out), 80 CHB8_P/CHB_D8 (out)
part B pins: 16 SDOUT (hiz) "This pin functions as serial interface register readout, when the <READOUT> bit is enabled. When <READOUT> = 0, this pin is put in high impedance state.It is a CMOS output pin running off DRVDD supply.", 17 RESET (in) "Serial interface RESET input. The user must initialize internal registers through hardware RESET by applying a high-going pulse on this pin or by using software reset option. Refer to SERIAL INTERFACE section. The pin has an (See Datasheet)", 18 SCLK (in) "Serial interface clock input. The pin has an internal 100-kohm pull-down resistor.", 19 SDATA (in) "Serial interface data input. The pin has an internal 100-kohm pull-down resistor.", 20 SEN (in) "Serial interface enable input. The pin has an internal 100-kohm pull-up resistor to DRVDD", 21 PDN (in) "Power down control pin. The pin has an internal 150-kohm pull-down resistor to DRGND.", 29 CM (out) "Outputs the common-mode voltage (0.95 V) that can be used externally to bias the analog input pins.", 31 CLKP (in) "Differential clock input", 32 CLKM (in) "Differential clock input", 40 SNRB_2 (in) "SNRBoost 3G control pins. Each pin has an internal 150-kohm pull-down resistor to DRGND.", 41 SNRB_1 (in) "SNRBoost 3G control pins. Each pin has an internal 150-kohm pull-down resistor to DRGND.", 67 CLKOUT_M/DNC (out), 68 CLKOUT_P/CLKOUT (out)
part C pins: 1 DRVDD (power) "1.8 V, digital supply", 22 AVDD (power) "1.8 V, analog power supply", 25 AVDD (power) "1.8 V, analog power supply", 28 AVDD (power) "1.8 V, analog power supply", 30 AVDD (power) "1.8 V, analog power supply", 33 AVDD (power) "1.8 V, analog power supply", 36 AVDD (power) "1.8 V, analog power supply", 39 AVDD (power) "1.8 V, analog power supply", 60 DRVDD (power) "1.8 V, digital supply", 69 DRVDD (power) "1.8 V, digital supply", 70 DRVDD (power) "1.8 V, digital supply", 81 EP (power) "MUST be connected to ground."

## ADS61JB23IRHAR
designator U?
12-Bit Input-Buffered 80 MSPS ADC with Output Interface, -40 to 85 degC, 40-pin QFN (RHA40), Green (RoHS & no Sb/Br); Manufacturer: Texas Instruments; PartNumber: ADS61JB23IRHAR; # Input Channels: 1; Analog Voltage AV/DD(Max)(V): 1.9; Analog Voltage AV/DD(Min)(V): 1.7; Architecture: Pipeline; ENOB(Bits): 11.5; INL(Max)(+/-LSB): 1.5; Interface: JESD204A; Resolution(Bits): 12; Sample Rate(max)(SPS): 80M; SFDR(dB): 80; SINAD(dB): 71.2; SNR(dB): 71.7; SubFamily: High Speed ADC (>10MSPS); DatasheetVersion: SLOS755; PackageVersion: 4204276/E, 06/2011; PackageReference: RHA40-4500X4500TP; PackageDescription: 40-Pin Plastic Quad Flatpack No-Lead, Body 6 x 6 mm, Pitch 0.5 mm; Supplier 1: Digi-Key; Supplier Part Number 1: ADS1110A4IDBVRG4-ND; Digital Supply(Max)(V): 1.9; Digital Supply(Min)(V): 1.7; Eco-Plan: Green (RoHS & no Sb/Br); Mounting Technology: Surface Mount; Code_JEDEC: MO-220; ComponentLink1Description: Manufacturer URL; ComponentLink1URL: http://www.ti.com/; ComponentLink2Description: Datasheet; ComponentLink2URL: http://www.ti.com/lit/ds/symlink/ads61jb23.pdf; ComponentLink3Description: Package Specification; ComponentLink3URL: http://www.ti.com/litv/pdf/mpqf135c
footprint TI-RHA40-4500X4500TP_V (QFN, 40-Leads, Body 6x6mm, Pitch 0.5mm, Thermal Pad 4.5x4.5mm)
part A pins: 1 SYNC~M (in) "JESD Synchronization request - Negative input", 2 SYNC~P (in) "JESD Synchronization request - Positive input", 3 DFS_EXTREF (in) "4-level analog control for Data Format select and Internal/ External reference mode", 4 PDN_ANA (in) "Analog section power down, JESD interface still active. This is referred to as fast recovery powerdown mode", 7 CLKP (in) "Conversion clock - Positive input", 8 CLKM (in) "Conversion clock - Negative input", 10 VCM (io) "Common mode output for setting input common mode: 1.95V, Reference input in external reference mode", 12 INP (in) "Analog input - Positive", 13 INM (in) "Analog input - Negative", 19 MODE (in) "4-level control for Serial interface/ Parallel interface modes selection", 21 PDN (in) "Full chip Powerdown (also referred to as Complete Powerdown mode)", 23 SEN_FALIGN_IDLE (in) "In Serial interface mode : Serial enable (Chip select) In parallel interface mode : 4-level control for JESD modes", 24 SDATA_TEST0 (in) "In Serial interface mode : Serial data input In parallel interface mode : JESD test mode", 25 SCLK_SERF0_SCR (in) "In Serial interface mode : Serial clock input In parallel interface mode : 4-level control for JESD modes (single/dual lane & scrambling)", 26 RESET (in) "Chip Reset input", 28 SDOUT_TEST1 (io) "In Serial interface mode : Serial data output (for register readout) In parallel interface mode : JESD test mode", 31 ADC_OUTM<1> (out) "CML output Lane 2 - Negative output", 32 ADC_OUTP<1> (out) "CML output Lane 2 - Positive output", 34 ADC_OUTM<0> (out) "CML output Lane 1 - Negative output", 35 ADC_OUTP<0> (out) "CML output Lane 1 - Positive output", 36 DETECT<3> (out) "Signal level detect output pins: Can be used to either output a 4-bit ADC code with low latency or to output a 16-level RMS power estimate", 37 DETECT<2> (out) "Signal level detect output pins: Can be used to either output a 4-bit ADC code with low latency or to output a 16-level RMS power estimate", 38 DETECT<1> (out) "Signal level detect output pins: Can be used to either output a 4-bit ADC code with low latency or to output a 16-level RMS power estimate", 39 DETECT<0> (out) "Signal level detect output pins: Can be used to either output a 4-bit ADC code with low latency or to output a 16-level RMS power estimate", 40 OVR (out) "Over-range output"
part B pins: 5 AGND (power) "Analog ground", 6 AGND (power) "Analog ground", 9 AGND (power) "Analog ground", 11 AGND (power) "Analog ground", 14 AGND (power) "Analog ground", 15 AVDD (power) "Analog supply, 1.8 V", 16 AGND (power) "Analog ground", 17 AVDD_3V (power) "Analog supply for input buffer, 3.3 V", 18 AVDD (power) "Analog supply, 1.8 V", 20 FAVDD (power) "Fuse supply - connect externally to AVDD, 1.8 V", 22 AVDD (power) "Analog supply, 1.8 V", 27 DRVDD (power) "Digital supply, 1.8 V", 29 DRGND (power) "Digital ground", 30 DRVDD (power) "Digital supply, 1.8 V", 33 IOVDD (power) "CML buffer supply - 1.2 V to 1.9 V", 41 EP (power) "Pad is connected to DRGND"

## ADS61JB23IRHAT
designator U?
12-Bit Input-Buffered 80 MSPS ADC with Output Interface, -40 to 85 degC, 40-pin QFN (RHA40), Green (RoHS & no Sb/Br); Manufacturer: Texas Instruments; PartNumber: ADS61JB23IRHAT; # Input Channels: 1; Analog Voltage AV/DD(Max)(V): 1.9; Analog Voltage AV/DD(Min)(V): 1.7; Architecture: Pipeline; ENOB(Bits): 11.5; INL(Max)(+/-LSB): 1.5; Interface: JESD204A; Resolution(Bits): 12; Sample Rate(max)(SPS): 80M; SFDR(dB): 80; SINAD(dB): 71.2; SNR(dB): 71.7; SubFamily: High Speed ADC (>10MSPS); DatasheetVersion: SLOS755; PackageVersion: 4204276/E, 06/2011; PackageReference: RHA40-4500X4500TP; PackageDescription: 40-Pin Plastic Quad Flatpack No-Lead, Body 6 x 6 mm, Pitch 0.5 mm; Supplier 1: Digi-Key; Supplier Part Number 1: 296-14465-2-ND; Digital Supply(Max)(V): 1.9; Digital Supply(Min)(V): 1.7; Eco-Plan: Green (RoHS & no Sb/Br); Mounting Technology: Surface Mount; Code_JEDEC: MO-220; ComponentLink1Description: Manufacturer URL; ComponentLink1URL: http://www.ti.com/; ComponentLink2Description: Datasheet; ComponentLink2URL: http://www.ti.com/lit/ds/symlink/ads61jb23.pdf; ComponentLink3Description: Package Specification; ComponentLink3URL: http://www.ti.com/litv/pdf/mpqf135c
footprint TI-RHA40-4500X4500TP_V (QFN, 40-Leads, Body 6x6mm, Pitch 0.5mm, Thermal Pad 4.5x4.5mm)
part A pins: 1 SYNC~M (in) "JESD Synchronization request - Negative input", 2 SYNC~P (in) "JESD Synchronization request - Positive input", 3 DFS_EXTREF (in) "4-level analog control for Data Format select and Internal/ External reference mode", 4 PDN_ANA (in) "Analog section power down, JESD interface still active. This is referred to as fast recovery powerdown mode", 7 CLKP (in) "Conversion clock - Positive input", 8 CLKM (in) "Conversion clock - Negative input", 10 VCM (io) "Common mode output for setting input common mode: 1.95V, Reference input in external reference mode", 12 INP (in) "Analog input - Positive", 13 INM (in) "Analog input - Negative", 19 MODE (in) "4-level control for Serial interface/ Parallel interface modes selection", 21 PDN (in) "Full chip Powerdown (also referred to as Complete Powerdown mode)", 23 SEN_FALIGN_IDLE (in) "In Serial interface mode : Serial enable (Chip select) In parallel interface mode : 4-level control for JESD modes", 24 SDATA_TEST0 (in) "In Serial interface mode : Serial data input In parallel interface mode : JESD test mode", 25 SCLK_SERF0_SCR (in) "In Serial interface mode : Serial clock input In parallel interface mode : 4-level control for JESD modes (single/dual lane & scrambling)", 26 RESET (in) "Chip Reset input", 28 SDOUT_TEST1 (io) "In Serial interface mode : Serial data output (for register readout) In parallel interface mode : JESD test mode", 31 ADC_OUTM<1> (out) "CML output Lane 2 - Negative output", 32 ADC_OUTP<1> (out) "CML output Lane 2 - Positive output", 34 ADC_OUTM<0> (out) "CML output Lane 1 - Negative output", 35 ADC_OUTP<0> (out) "CML output Lane 1 - Positive output", 36 DETECT<3> (out) "Signal level detect output pins: Can be used to either output a 4-bit ADC code with low latency or to output a 16-level RMS power estimate", 37 DETECT<2> (out) "Signal level detect output pins: Can be used to either output a 4-bit ADC code with low latency or to output a 16-level RMS power estimate", 38 DETECT<1> (out) "Signal level detect output pins: Can be used to either output a 4-bit ADC code with low latency or to output a 16-level RMS power estimate", 39 DETECT<0> (out) "Signal level detect output pins: Can be used to either output a 4-bit ADC code with low latency or to output a 16-level RMS power estimate", 40 OVR (out) "Over-range output"
part B pins: 5 AGND (power) "Analog ground", 6 AGND (power) "Analog ground", 9 AGND (power) "Analog ground", 11 AGND (power) "Analog ground", 14 AGND (power) "Analog ground", 15 AVDD (power) "Analog supply, 1.8 V", 16 AGND (power) "Analog ground", 17 AVDD_3V (power) "Analog supply for input buffer, 3.3 V", 18 AVDD (power) "Analog supply, 1.8 V", 20 FAVDD (power) "Fuse supply - connect externally to AVDD, 1.8 V", 22 AVDD (power) "Analog supply, 1.8 V", 27 DRVDD (power) "Digital supply, 1.8 V", 29 DRGND (power) "Digital ground", 30 DRVDD (power) "Digital supply, 1.8 V", 33 IOVDD (power) "CML buffer supply - 1.2 V to 1.9 V", 41 EP (power) "Pad is connected to DRGND"

## ADS62P19IRGCR
designator U?
Dual Channel 11-Bit, 250 MSPS ADC with DDR LVDS and Parallel CMOS Output, -40 to 85 degC, 64-pin QFN (RGC64), Green (RoHS & no Sb/Br); Manufacturer: Texas Instruments; PartNumber: ADS62P19IRGCR; # Input Channels: 2; Analog Voltage AV/DD(Max)(V): 3.6; Analog Voltage AV/DD(Min)(V): 3.15; Architecture: Pipeline; Digital Supply(Max)(V): 1.9; Digital Supply(Min)(V): 1.7; ENOB(Bits): 10.6; INL(Max)(+/-LSB): 2.5; Interface: CMOS, DDR LVDS; Resolution(Bits): 11; Sample Rate(max)(SPS): 250M; SFDR(dB): 89; SINAD(dB): 66.5; SubFamily: High Speed ADC (>10MSPS); DatasheetVersion: SLAS937; PackageVersion: 4204106/F, 11/2011; PackageReference: RGC64-7400X7400TP; PackageDescription: 64-Pin Plastic Quad Flatpack No-Lead, Body 9 x 9 mm, Pitch 0.5 mm; Supplier 1: Digi-Key; Supplier Part Number 1: ADS1110A4IDBVTG4-ND; Eco-Plan: Green (RoHS & no Sb/Br); SNR(dB): 66.5; Mounting Technology: Surface Mount; ComponentLink1Description: Manufacturer URL; ComponentLink1URL: http://www.ti.com/; ComponentLink2Description: Datasheet; ComponentLink2URL: http://www.ti.com/lit/ds/symlink/ads62p19.pdf; ComponentLink3Description: Package Specification; ComponentLink3URL: http://www.ti.com/litv/pdf/mpqf125e
footprint TI-RGC64-7400X7400TP_V (QFN, 64-Leads, Body 9x9mm, Pitch 0.5mm, Thermal Pad 7.4x7.4mm, TI Recommended)
part A pins: 2 DB2M/DB1 (hiz), 3 DB2P/DB2 (hiz), 4 DB4M/DB3 (hiz), 5 DB4P/DB4 (hiz), 6 DB6M/DB5 (hiz), 7 DB6P/DB6 (hiz), 8 DB8M/DB7 (hiz), 9 DB8P/DB8 (hiz), 10 DB10M/DB9 (hiz), 11 DB10P/DB10 (hiz), 12 RESET (in) "Serial interface RESET input. When using the serial interface mode, the internal registers must be initialized through a hardware RESET by applying a high-going pulse on this pin or by using a software reset option. Refer to (See Datasheet)", 13 SCLK (in) "This pin functions as a serial interface clock input when RESET is low. SCLK controls the internal or external reference selection when RESET is tied high. See Table 8 for detailed information. This pin has an internal 100-k (See Datasheet)", 14 SDATA (in) "Serial interface data input. This pin has an internal 100-k ohm pull-down resistor. SDATA has no function in parallel interface mode and can be tied to ground.", 15 SEN (in) "This pin functions as a serial interface enable input when RESET is low. SEN controls data format and interface type selection when RESET is tied high. See Table 9 for detailed information. This pin has an internal 100-k ohm (See Datasheet)", 19 INP_B (in) "Differential analog input, channel B", 20 INM_B (in) "Differential analog input, channel B", 23 VCM (io) "Internal reference mode. Common-mode voltage output. External reference mode. Reference input; the voltage forced on this pin sets the internal references.", 25 CLKP (in) "Differential clock input", 26 CLKM (in) "Differential clock input", 29 INP_A (in) "Differential analog input, channel A", 30 INM_A (in) "Differential analog input, channel A", 35 CTRL1 (in) "Digital control input pins. Together, these pins control various power-down modes. Each pin has an internal 100-k ohm pull-down resistor.", 36 CTRL2 (in) "Digital control input pins. Together, these pins control various power-down modes. Each pin has an internal 100-k ohm pull-down resistor.", 37 CTRL3 (in) "Digital control input pins. Together, these pins control various power-down modes. Each pin has an internal 100-k ohm pull-down resistor.", 42 DA0M/NC (hiz), 43 DA0P/DA0 (hiz), 44 DA2M/DA1 (hiz), 45 DA2P/DA2 (hiz), 46 DA4M/DA3 (hiz), 47 DA4P/DA4 (hiz), 50 DA6M/DA5 (hiz), 51 DA6P/DA6 (hiz), 52 DA8M/DA7 (hiz), 53 DA8P/DA8 (hiz), 54 DA10M/DA9 (hiz), 55 DA10P/DA10 (hiz), 56 CLKOUTM/UNUSED (out), 57 CLKOUTP/CLKOUT (out) "Differential output clock, true", 62 DB0M/NC (hiz), 63 DB0P/DB0 (hiz), 64 SDOUT (out) "This pin functions as a serial interface register readout when the SERIAL READOUT bit is enabled. When SERIAL READOUT is '0', this pin forces a logic low and is not 3- stated."
part B pins: 1 DRVDD (power) "Output buffer supply", 16 AVDD (power) "Analog power supply", 17 AGND (power) "Analog ground", 18 AGND (power) "Analog ground", 21 AGND (power) "Analog ground", 24 AGND (power) "Analog ground", 27 AGND (power) "Analog ground", 28 AGND (power) "Analog ground", 31 AGND (power) "Analog ground", 32 AGND (power) "Analog ground", 33 AVDD (power) "Analog power supply", 34 AVDD (power) "Analog power supply", 38 DRVDD (power) "Output buffer supply", 39 DRGND (power) "Output buffer ground", 48 DRVDD (power) "Output buffer supply", 49 DRGND (power) "Output buffer ground", 58 DRVDD (power) "Output buffer supply", 59 DRGND (power) "Output buffer ground", 65 DRGND (power) "Output buffer ground"
part C pins: 22 NC "Do not connect", 40 NC "Do not connect", 41 NC "Do not connect", 60 NC "Do not connect", 61 NC "Do not connect"